# EAGLE library part GPS-SPIFLASH (library common)
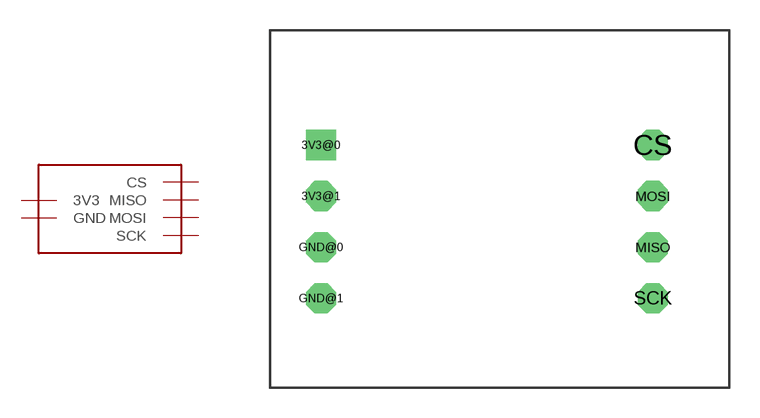
[diagram p30: symbol with the pads of GPS-SPIFLASH; footprint GPS-SPIFLASH]

Designator prefix -

## GPS-SPIFLASH  [GPS-SPIFLASH]
3V3@0  3V3
3V3@1  3V3
CS  CS
GND@0  GND
GND@1  GND
MISO  MISO
MOSI  MOSI
SCK  SCK

## Footprint GPS-SPIFLASH (pad centres in mm)
drill 1 square: 3V3@0 -20.32,12.065
drill 1 octagon: 3V3@1 -20.32,9.525; CS -3.81,12.065; GND@0 -20.32,6.985; GND@1 -20.32,4.445; MISO -3.81,6.985; MOSI -3.81,9.525; SCK -3.81,4.445